# EAGLE library part NCP5106B (library tmxk)
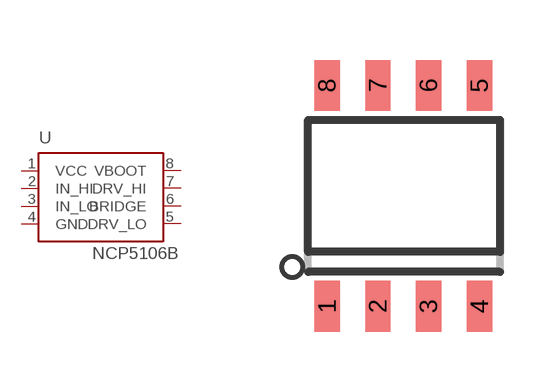
[diagram p17: symbol with the pads of SOP8; footprint SOP8]

Designator prefix U

## NCP5106B  [SOP8]
1  VCC  pwr
2  IN_HI  in
3  IN_LO  in
4  GND  pwr
5  DRV_LO
6  BRIDGE  out
7  DRV_HI  out
8  VBOOT

## Footprint SOP8 (pad centres in mm)
Small Outline Package 8 NS Package M08A
smd 0.635 x 1.27: 1 -1.925,-2.76; 2 -0.655,-2.76; 3 0.615,-2.76; 4 1.885,-2.76; 5 1.885,2.76; 6 0.615,2.76; 7 -0.655,2.76; 8 -1.925,2.76